# Altium footprint library JST GH Connectors.PcbLib: 28 footprints (part 1 of 2)
Each footprint in its own frame and in the unit in brackets; x right, y up, seen from the top. Pads: shape width x height; smd on the part's side, far side on the other; paste and mask are expansions set on the pad; w line width, h text height; cw(c..) or ccw(c..) is an arc to the next point about the centre after c.
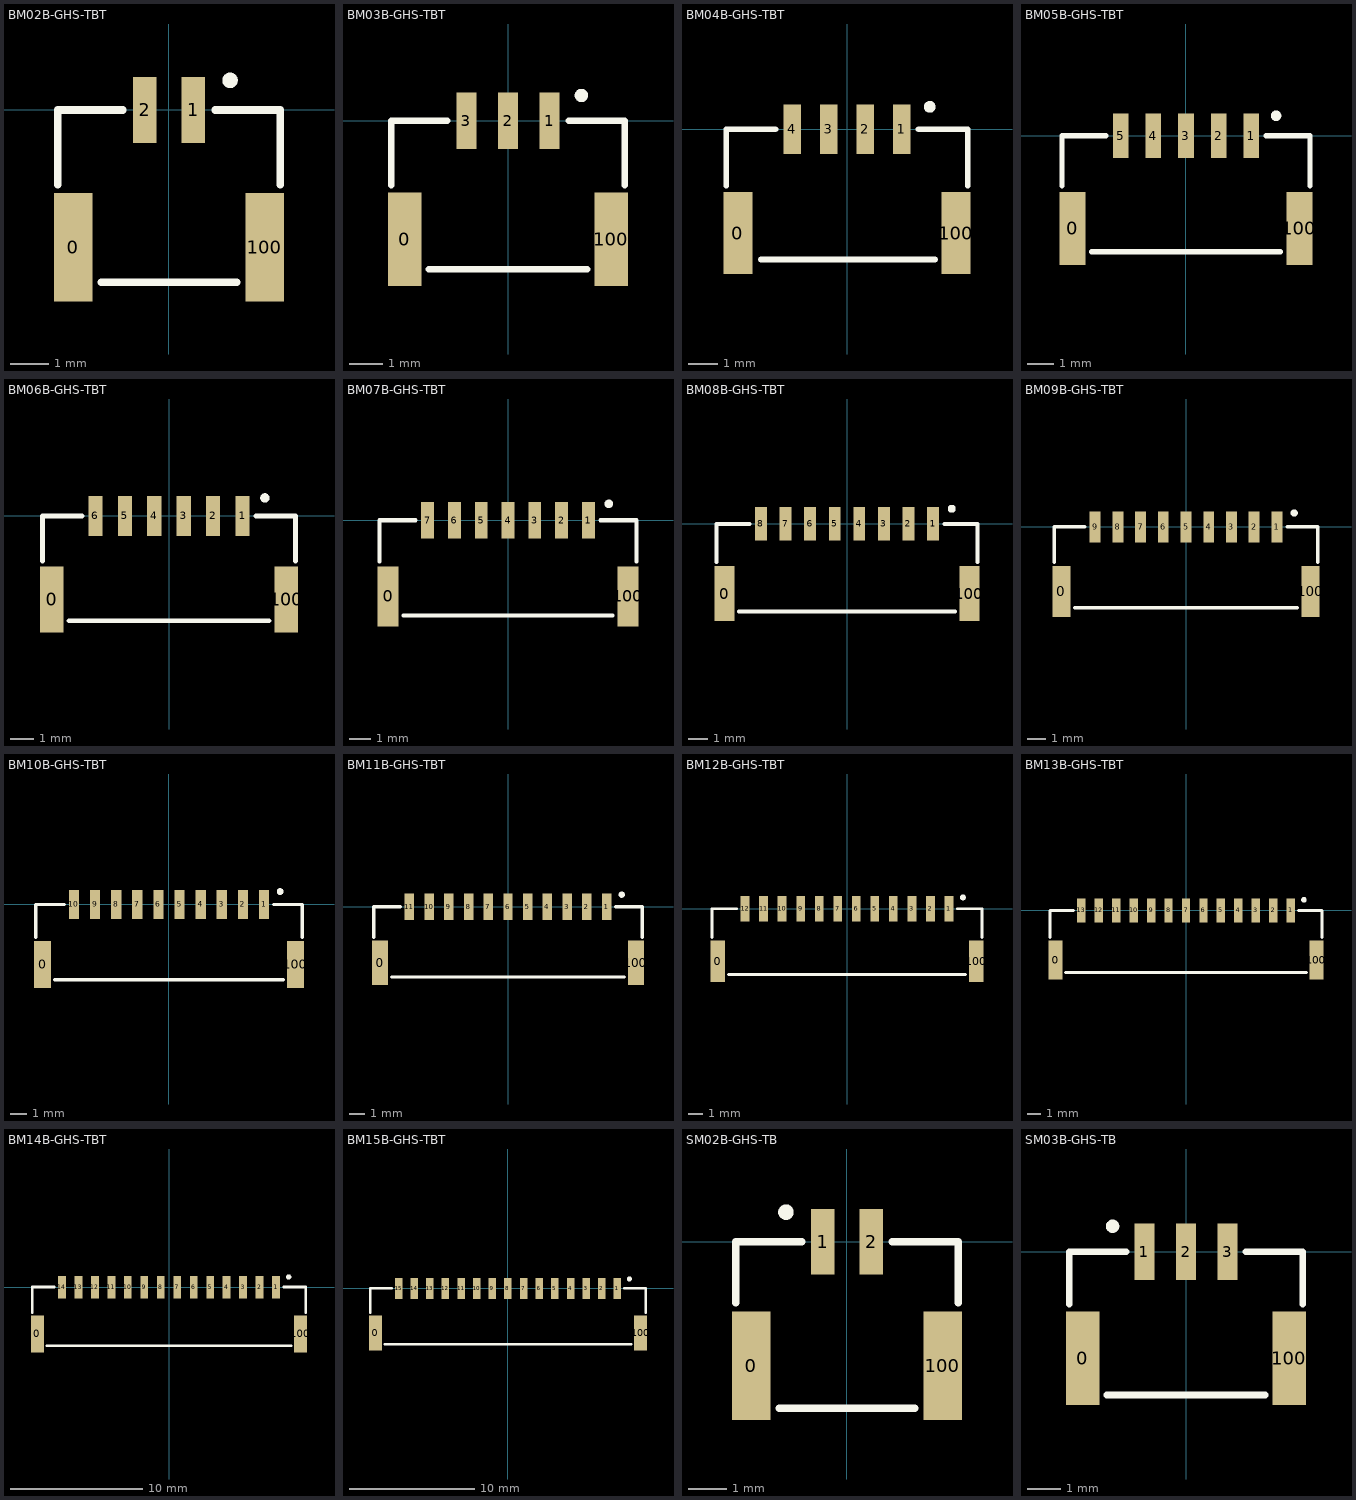
[diagram p0: the footprints below, top view; thin cyan lines are the x and y axes]

## BM02B-GHS-TBT [mm]
pads (4):
  rect 1x2.8 smd: 0(-2.475,-3.55) 100(2.475,-3.55)
  rect 0.6x1.7 smd: 1(0.625,0) 2(-0.625,0)
Top Overlay:
  circle w0.2: c1.577,0.765 r0.1
  lines w0.2: -2.875,-1.93 -2.875,0 -1.193,0 ; -1.752,-4.45 1.752,-4.45 ; 1.193,0 2.875,0 2.875,-1.93
3D body "BM02B-GHS-TBT.STEP": height 4.21, standoff 0.01, extent -2.875,-4.45 2.875,0.5

## BM03B-GHS-TBT [mm]
pads (5):
  rect 1x2.8 smd: 0(-3.1,-3.55) 100(3.1,-3.55)
  rect 0.6x1.7 smd: 1(1.25,0) 2(0,0) 3(-1.25,0)
Top Overlay:
  circle w0.2: c2.202,0.765 r0.1
  lines w0.2: -3.5,-1.93 -3.5,0 -1.818,0 ; -2.377,-4.45 2.377,-4.45 ; 1.818,0 3.5,0 3.5,-1.93
3D body "BM03B-GHS-TBT.STEP": height 4.21, standoff 0.01, extent -3.5,-4.45 3.5,0.5

## BM04B-GHS-TBT [mm]
pads (6):
  rect 1x2.8 smd: 0(-3.725,-3.55) 100(3.725,-3.55)
  rect 0.6x1.7 smd: 1(1.875,0) 2(0.625,0) 3(-0.625,0) 4(-1.875,0)
Top Overlay:
  circle w0.2: c2.827,0.765 r0.1
  lines w0.2: -4.125,-1.93 -4.125,0 -2.443,0 ; -2.942,-4.45 3.002,-4.45 ; 2.443,0 4.125,0 4.125,-1.93
3D body "BM04B-GHS-TBT.STEP": height 4.21, standoff 0.01, extent -4.125,-4.45 4.125,0.5

## BM05B-GHS-TBT [mm]
pads (7):
  rect 1x2.8 smd: 0(-4.35,-3.55) 100(4.35,-3.55)
  rect 0.6x1.7 smd: 1(2.5,0) 2(1.25,0) 3(0,0) 4(-1.25,0) 5(-2.5,0)
Top Overlay:
  circle w0.2: c3.452,0.765 r0.1
  lines w0.2: -4.75,-1.93 -4.75,0 -3.068,0 ; -3.627,-4.45 3.627,-4.45 ; 3.068,0 4.75,0 4.75,-1.93
3D body "BM05B-GHS-TBT.STEP": height 4.21, standoff 0.01, extent -4.75,-4.45 4.75,0.5

## BM06B-GHS-TBT [mm]
pads (8):
  rect 1x2.8 smd: 0(-4.975,-3.55) 100(4.975,-3.55)
  rect 0.6x1.7 smd: 1(3.125,0) 2(1.875,0) 3(0.625,0) 4(-0.625,0) 5(-1.875,0) 6(-3.125,0)
Top Overlay:
  circle w0.2: c4.077,0.765 r0.1
  lines w0.2: -5.375,-1.93 -5.375,0 -3.693,0 ; -4.252,-4.45 4.252,-4.45 ; 3.693,0 5.375,0 5.375,-1.93
3D body "BM06B-GHS-TBT.STEP": height 4.21, standoff 0.01, extent -5.375,-4.45 5.375,0.5

## BM07B-GHS-TBT [mm]
pads (9):
  rect 1x2.8 smd: 0(-5.6,-3.55) 100(5.6,-3.55)
  rect 0.6x1.7 smd: 1(3.75,0) 2(2.5,0) 3(1.25,0) 4(0,0) 5(-1.25,0) 6(-2.5,0) 7(-3.75,0)
Top Overlay:
  circle w0.2: c4.702,0.765 r0.1
  lines w0.2: -6,-1.93 -6,0 -4.318,0 ; -4.877,-4.45 4.877,-4.45 ; 4.318,0 6,0 6,-1.93
3D body "BM07B-GHS-TBT.STEP": height 4.21, standoff 0.01, extent -6,-4.45 6,0.5

## BM08B-GHS-TBT [mm]
pads (10):
  rect 1x2.8 smd: 0(-6.225,-3.55) 100(6.225,-3.55)
  rect 0.6x1.7 smd: 1(4.375,0) 2(3.125,0) 3(1.875,0) 4(0.625,0) 5(-0.625,0) 6(-1.875,0) 7(-3.125,0) 8(-4.375,0)
Top Overlay:
  circle w0.2: c5.327,0.765 r0.1
  lines w0.2: -6.625,-1.93 -6.625,0 -4.943,0 ; -5.502,-4.45 5.502,-4.45 ; 4.943,0 6.625,0 6.625,-1.93
3D body "BM08B-GHS-TBT.STEP": height 4.21, standoff 0.01, extent -6.625,-4.45 6.625,0.5

## BM09B-GHS-TBT [mm]
pads (11):
  rect 1x2.8 smd: 0(-6.85,-3.55) 100(6.85,-3.55)
  rect 0.6x1.7 smd: 1(5,0) 2(3.75,0) 3(2.5,0) 4(1.25,0) 5(0,0) 6(-1.25,0) 7(-2.5,0) 8(-3.75,0) 9(-5,0)
Top Overlay:
  circle w0.2: c5.952,0.765 r0.1
  lines w0.2: -7.25,-1.93 -7.25,0 -5.568,0 ; -6.127,-4.45 6.127,-4.45 ; 5.568,0 7.25,0 7.25,-1.93
3D body "BM09B-GHS-TBT.STEP": height 4.21, standoff 0.01, extent -7.25,-4.45 7.25,0.5

## BM10B-GHS-TBT [mm]
pads (12):
  rect 1x2.8 smd: 0(-7.475,-3.55) 100(7.475,-3.55)
  rect 0.6x1.7 smd: 1(5.625,0) 2(4.375,0) 3(3.125,0) 4(1.875,0) 5(0.625,0) 6(-0.625,0) 7(-1.875,0) 8(-3.125,0) 9(-4.375,0) 10(-5.625,0)
Top Overlay:
  circle w0.2: c6.577,0.765 r0.1
  lines w0.2: -7.875,-1.93 -7.875,0 -6.193,0 ; -6.752,-4.45 6.752,-4.45 ; 6.193,0 7.875,0 7.875,-1.93
3D body "BM10B-GHS-TBT.STEP": height 4.21, standoff 0.01, extent -7.875,-4.45 7.875,0.5

## BM11B-GHS-TBT [mm]
pads (13):
  rect 1x2.8 smd: 0(-8.1,-3.55) 100(8.1,-3.55)
  rect 0.6x1.7 smd: 1(6.25,0) 2(5,0) 3(3.75,0) 4(2.5,0) 5(1.25,0) 6(0,0) 7(-1.25,0) 8(-2.5,0) 9(-3.75,0) 10(-5,0) 11(-6.25,0)
Top Overlay:
  circle w0.2: c7.202,0.765 r0.1
  lines w0.2: -8.5,-1.93 -8.5,0 -6.818,0 ; -7.377,-4.45 7.377,-4.45 ; 6.818,0 8.5,0 8.5,-1.93
3D body "BM11B-GHS-TBT.STEP": height 4.21, standoff 0.01, extent -8.5,-4.45 8.5,0.5

## BM12B-GHS-TBT [mm]
pads (14):
  rect 1x2.8 smd: 0(-8.725,-3.55) 100(8.725,-3.55)
  rect 0.6x1.7 smd: 1(6.875,0) 2(5.625,0) 3(4.375,0) 4(3.125,0) 5(1.875,0) 6(0.625,0) 7(-0.625,0) 8(-1.875,0) 9(-3.125,0) 10(-4.375,0) 11(-5.625,0) 12(-6.875,0)
Top Overlay:
  circle w0.2: c7.827,0.765 r0.1
  lines w0.2: -9.125,-1.93 -9.125,0 -7.443,0 ; -8.002,-4.45 8.002,-4.45 ; 7.443,0 9.125,0 9.125,-1.93
3D body "BM12B-GHS-TBT.STEP": height 4.21, standoff 0.01, extent -9.125,-4.45 9.125,0.5

## BM13B-GHS-TBT [mm]
pads (15):
  rect 1x2.8 smd: 0(-9.35,-3.55) 100(9.35,-3.55)
  rect 0.6x1.7 smd: 1(7.5,0) 2(6.25,0) 3(5,0) 4(3.75,0) 5(2.5,0) 6(1.25,0) 7(0,0) 8(-1.25,0) 9(-2.5,0) 10(-3.75,0) 11(-5,0) 12(-6.25,0) 13(-7.5,0)
Top Overlay:
  circle w0.2: c8.452,0.765 r0.1
  lines w0.2: -9.75,-1.93 -9.75,0 -8.068,0 ; -8.627,-4.45 8.627,-4.45 ; 8.068,0 9.75,0 9.75,-1.93
3D body "BM13B-GHS-TBT.STEP": height 4.21, standoff 0.01, extent -9.75,-4.45 9.75,0.5

## BM14B-GHS-TBT [mm]
pads (16):
  rect 1x2.8 smd: 0(-9.975,-3.55) 100(9.975,-3.55)
  rect 0.6x1.7 smd: 1(8.125,0) 2(6.875,0) 3(5.625,0) 4(4.375,0) 5(3.125,0) 6(1.875,0) 7(0.625,0) 8(-0.625,0) 9(-1.875,0) 10(-3.125,0) 11(-4.375,0) 12(-5.625,0) 13(-6.875,0) 14(-8.125,0)
Top Overlay:
  circle w0.2: c9.077,0.765 r0.1
  lines w0.2: -10.375,-1.93 -10.375,0 -8.693,0 ; -9.252,-4.45 9.252,-4.45 ; 8.693,0 10.375,0 10.375,-1.93
3D body "BM14B-GHS-TBT.STEP": height 4.21, standoff 0.01, extent -10.375,-4.45 10.375,0.5

## BM15B-GHS-TBT [mm]
pads (17):
  rect 1x2.8 smd: 0(-10.6,-3.55) 100(10.6,-3.55)
  rect 0.6x1.7 smd: 1(8.75,0) 2(7.5,0) 3(6.25,0) 4(5,0) 5(3.75,0) 6(2.5,0) 7(1.25,0) 8(0,0) 9(-1.25,0) 10(-2.5,0) 11(-3.75,0) 12(-5,0) 13(-6.25,0) 14(-7.5,0) 15(-8.75,0)
Top Overlay:
  circle w0.2: c9.702,0.765 r0.1
  lines w0.2: -11,-1.93 -11,0 -9.318,0 ; -9.877,-4.45 9.877,-4.45 ; 9.318,0 11,0 11,-1.93
3D body "BM15B-GHS-TBT.STEP": height 4.21, standoff 0.01, extent -11,-4.45 11,0.5

## SM02B-GHS-TB [mm]
pads (4):
  rect 1x2.8 smd: 0(-2.475,-3.2) 100(2.475,-3.2)
  rect 0.6x1.7 smd: 1(-0.625,0) 2(0.625,0)
Top Overlay:
  circle w0.2: c-1.577,0.765 r0.1
  lines w0.2: -2.875,-1.575 -2.875,0 -1.168,0 ; -1.752,-4.3 1.752,-4.3 ; 1.168,0 2.875,0 2.875,-1.575
3D body "SM02B-GHS-TB.STEP": height 4.36, standoff 0.01, extent -2.875,-4.3 2.875,0.55

## SM03B-GHS-TB [mm]
pads (5):
  rect 1x2.8 smd: 0(-3.1,-3.2) 100(3.1,-3.2)
  rect 0.6x1.7 smd: 1(-1.25,0) 2(0,0) 3(1.25,0)
Top Overlay:
  circle w0.2: c-2.202,0.765 r0.1
  lines w0.2: -3.5,-1.575 -3.5,0 -1.793,0 ; -2.377,-4.3 2.377,-4.3 ; 1.793,0 3.5,0 3.5,-1.575
3D body "SM03B-GHS-TB.STEP": height 4.36, standoff 0.01, extent -3.5,-4.3 3.5,0.55